# EAGLE library part ESP-WROOM-02 (library esp8266)
Espressif Systems ESP-WROOM-02
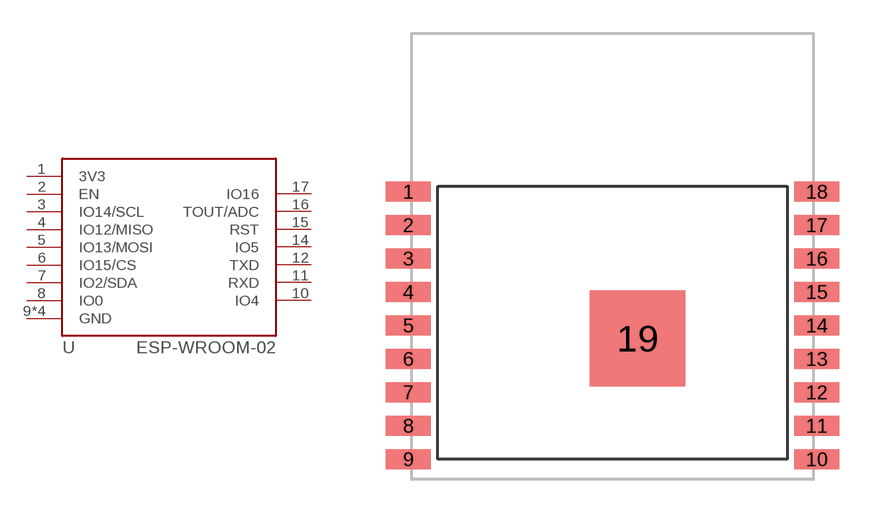
[diagram p1: symbol with the pads of ESP-WROOM-02; footprint ESP-WROOM-02]

Designator prefix U

## ESP-WROOM-02  [ESP-WROOM-02]
1  3V3  pwr
2  EN  in
3  IO14/SCL
4  IO12/MISO
5  IO13/MOSI
6  IO15/CS
7  IO2/SDA
8  IO0
9  GND  pwr
10  IO4
11  RXD
12  TXD
13  GND  pwr
14  IO5
15  RST  in
16  TOUT/ADC  pas
17  IO16
18  GND  pwr
19  GND  pwr

## Footprint ESP-WROOM-02 (pad centres in mm)
smd 2 x 0.9: 1 -9.15,2.9; 2 -9.15,1.4; 3 -9.15,-0.1; 4 -9.15,-1.6; 5 -9.15,-3.1; 6 -9.15,-4.6; 7 -9.15,-6.1; 8 -9.15,-7.6; 9 -9.15,-9.1; 10 9.15,-9.1; 11 9.15,-7.6; 12 9.15,-6.1; 13 9.15,-4.6; 14 9.15,-3.1; 15 9.15,-1.6; 16 9.15,-0.1; 17 9.15,1.4; 18 9.15,2.9
smd 4.3 x 4.3: 19 1.12,-3.68